# Altium footprint library LCD.PcbLib: 2 footprints
Each footprint in its own frame and in the unit in brackets; x right, y up, seen from the top. Pads: shape width x height; smd on the part's side, far side on the other; paste and mask are expansions set on the pad; w line width, h text height; cw(c..) or ccw(c..) is an arc to the next point about the centre after c.
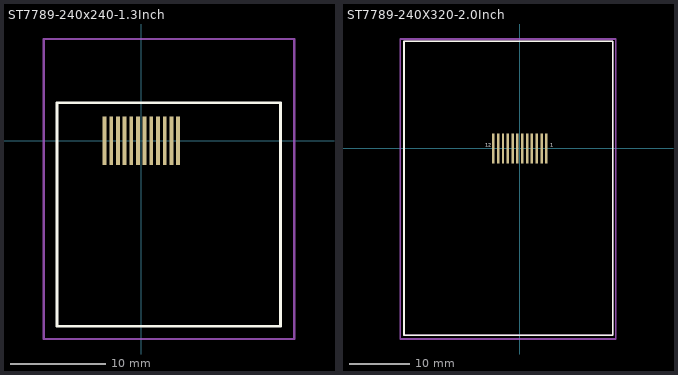
[diagram p0: the footprints below, top view; thin cyan lines are the x and y axes]

## ST7789-240x240-1.3Inch [mm]
pads (12):
  rect 0.4x5.08 smd paste+0: 1(-3.85,0) 2(-3.15,0) 3(-2.45,0) 4(-1.749,0) 5(-1.05,0) 6(-0.35,0) 7(0.35,0) 8(1.05,0) 9(1.749,0) 10(2.45,0) 11(3.15,0) 12(3.85,0)
Top Overlay:
  lines w0.3: -8.82,-19.4 14.58,-19.4 14.58,4 -8.82,4 -8.82,-19.4
Mechanical 1:
  lines w0.254: -10.2,-20.73 16,-20.73 16,10.668 -10.2,10.668 -10.2,-20.73
Mechanical 13:
  lines w0.254: -10.2,-20.73 -10.2,10.668 16,10.668 16,-20.73 -10.2,-20.73
Mechanical 15:
  lines w0.254: -10.2,-20.73 -10.2,10.668 16,10.668 16,-20.73 -10.2,-20.73
Mechanical 29:
  lines w0.254: -10.2,-20.73 -10.2,10.668 16,10.668 16,-20.73 -10.2,-20.73
3D body "1 (5).stp": height 3.47, standoff 0.01, extent -10.238,-20.705 16,10.755

## ST7789-240X320-2.0Inch [mm]
pads (12):
  rect 0.4x5 smd paste+0 mask+0.102: 1(4.4,0) 2(3.6,0) 3(2.8,0) 4(2,0) 5(1.2,0) 6(0.4,0) 7(-0.4,0) 8(-1.2,0) 9(-2,0) 10(-2.8,0) 11(-3.6,0) 12(-4.4,0)
Top Overlay:
  lines w0.254: -19.228,-31.039 -19.228,17.78 15.392,17.78 15.392,-31.039 -19.228,-31.039
  text "12" at -5.715,0 h1
  text "1" at 5.08,0 h1
Mechanical 1:
  lines w0.254: -19.228,-31.039 -19.228,17.78 15.392,17.78 15.392,-31.039 -19.228,-31.039
Mechanical 13:
  lines w0.254: -19.228,-31.039 -19.228,17.78 15.392,17.78 15.392,-31.039 -19.228,-31.039
Mechanical 15:
  lines w0.254: -19.812,-31.623 -19.812,18.161 15.875,18.161 15.875,-31.623 -19.812,-31.623
3D body "1 (1).stp": height 0.4, standoff -2.27, extent -19.202,-31.039 15.392,17.777